# EAGLE library part M3826X(100PIN) (library renesas_mcu)
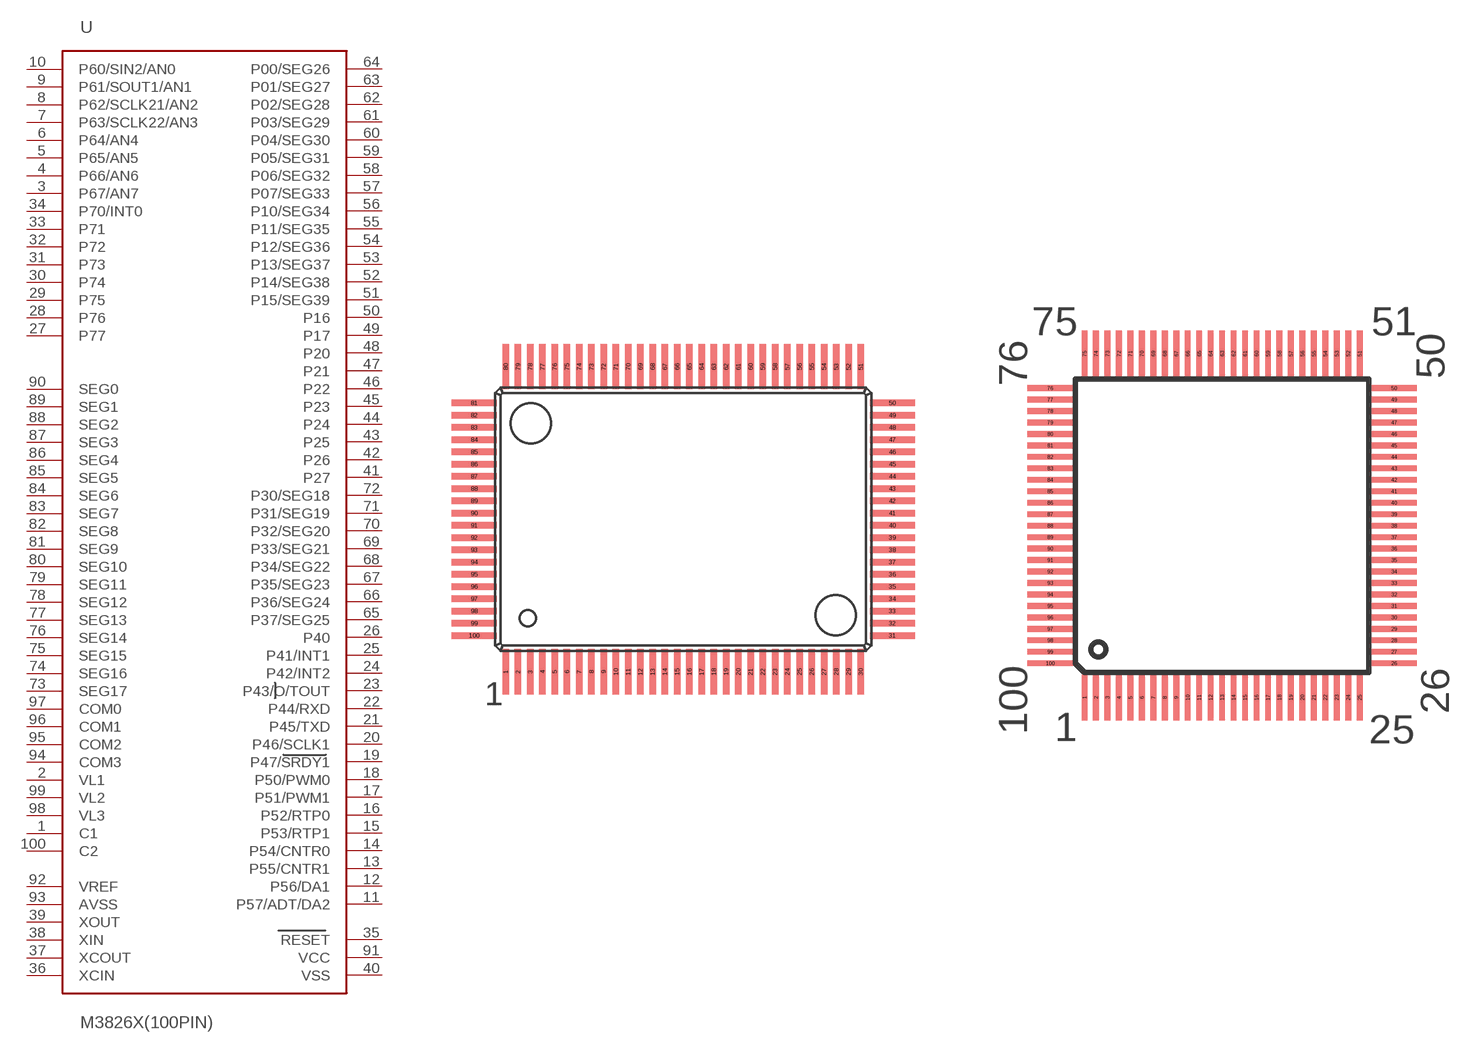
[diagram p73: symbol with the pads of 100P6S-A; footprints 100P6S-A, 100P6Q-A]

Designator prefix -

## M3826X(100PIN)FP  [100P6S-A]
1  C1  in
2  VL1  in
3  P67/AN7
4  P66/AN6
5  P65/AN5
6  P64/AN4
7  P63/SCLK22/AN3
8  P62/SCLK21/AN2
9  P61/SOUT1/AN1
10  P60/SIN2/AN0
11  P57/ADT/DA2
12  P56/DA1
13  P55/CNTR1
14  P54/CNTR0
15  P53/RTP1
16  P52/RTP0
17  P51/PWM1
18  P50/PWM0
19  P47/SRDY1
20  P46/SCLK1
21  P45/TXD
22  P44/RXD
23  P43/O/TOUT
24  P42/INT2
25  P41/INT1
26  P40
27  P77
28  P76
29  P75
30  P74
31  P73
32  P72
33  P71
34  P70/INT0
35  RESET  in
36  XCIN  in
37  XCOUT  out
38  XIN  in
39  XOUT  out
40  VSS  pwr
41  P27
42  P26
43  P25
44  P24
45  P23
46  P22
47  P21
48  P20
49  P17
50  P16
51  P15/SEG39
52  P14/SEG38
53  P13/SEG37
54  P12/SEG36
55  P11/SEG35
56  P10/SEG34
57  P07/SEG33
58  P06/SEG32
59  P05/SEG31
60  P04/SEG30
61  P03/SEG29
62  P02/SEG28
63  P01/SEG27
64  P00/SEG26
65  P37/SEG25  out
66  P36/SEG24  out
67  P35/SEG23  out
68  P34/SEG22  out
69  P33/SEG21  out
70  P32/SEG20  out
71  P31/SEG19  out
72  P30/SEG18  out
73  SEG17  out
74  SEG16  out
75  SEG15  out
76  SEG14  out
77  SEG13  out
78  SEG12  out
79  SEG11  out
80  SEG10  out
81  SEG9  out
82  SEG8  out
83  SEG7  out
84  SEG6  out
85  SEG5  out
86  SEG4  out
87  SEG3  out
88  SEG2  out
89  SEG1  out
90  SEG0  out
91  VCC  pwr
92  VREF  in
93  AVSS  in
94  COM3  out
95  COM2  out
96  COM1  out
97  COM0  out
98  VL3  in
99  VL2  in
100  C2  in

## M3826X(100PIN)GP  [100P6Q-A]
1  P67/AN7
2  P66/AN6
3  P65/AN5
4  P64/AN4
5  P63/SCLK22/AN3
6  P62/SCLK21/AN2
7  P61/SOUT1/AN1
8  P60/SIN2/AN0
9  P57/ADT/DA2
10  P56/DA1
11  P55/CNTR1
12  P54/CNTR0
13  P53/RTP1
14  P52/RTP0
15  P51/PWM1
16  P50/PWM0
17  P47/SRDY1
18  P46/SCLK1
19  P45/TXD
20  P44/RXD
21  P43/O/TOUT
22  P42/INT2
23  P41/INT1
24  P40
25  P77
26  P76
27  P75
28  P74
29  P73
30  P72
31  P71
32  P70/INT0
33  RESET  in
34  XCIN  in
35  XCOUT  out
36  XIN  in
37  XOUT  out
38  VSS  pwr
39  P27
40  P26
41  P25
42  P24
43  P23
44  P22
45  P21
46  P20
47  P17
48  P16
49  P15/SEG39
50  P14/SEG38
51  P13/SEG37
52  P12/SEG36
53  P11/SEG35
54  P10/SEG34
55  P07/SEG33
56  P06/SEG32
57  P05/SEG31
58  P04/SEG30
59  P03/SEG29
60  P02/SEG28
61  P01/SEG27
62  P00/SEG26
63  P37/SEG25  out
64  P36/SEG24  out
65  P35/SEG23  out
66  P34/SEG22  out
67  P33/SEG21  out
68  P32/SEG20  out
69  P31/SEG19  out
70  P30/SEG18  out
71  SEG17  out
72  SEG16  out
73  SEG15  out
74  SEG14  out
75  SEG13  out
76  SEG12  out
77  SEG11  out
78  SEG10  out
79  SEG9  out
80  SEG8  out
81  SEG7  out
82  SEG6  out
83  SEG5  out
84  SEG4  out
85  SEG3  out
86  SEG2  out
87  SEG1  out
88  SEG0  out
89  VCC  pwr
90  VREF  in
91  AVSS  in
92  COM3  out
93  COM2  out
94  COM1  out
95  COM0  out
96  VL3  in
97  VL2  in
98  C2  in
99  C1  in
100  VL1  in

## Footprint 100P6S-A (pad centres in mm)
smd 0.35 x 2.4: 1 -9.425,-8.1; 2 -8.775,-8.1; 3 -8.125,-8.1; 4 -7.475,-8.1; 5 -6.825,-8.1; 6 -6.175,-8.1; 7 -5.525,-8.1; 8 -4.875,-8.1; 9 -4.225,-8.1; 10 -3.575,-8.1; 11 -2.925,-8.1; 12 -2.275,-8.1; 13 -1.625,-8.1; 14 -0.975,-8.1; 15 -0.325,-8.1; 16 0.325,-8.1; 17 0.975,-8.1; 18 1.625,-8.1; 19 2.275,-8.1; 20 2.925,-8.1; 21 3.575,-8.1; 22 4.225,-8.1; 23 4.875,-8.1; 24 5.525,-8.1; 25 6.175,-8.1; 26 6.825,-8.1; 27 7.475,-8.1; 28 8.125,-8.1; 29 8.775,-8.1; 30 9.425,-8.1; 51 9.425,8.1; 52 8.775,8.1; 53 8.125,8.1; 54 7.475,8.1; 55 6.825,8.1; 56 6.175,8.1; 57 5.525,8.1; 58 4.875,8.1; 59 4.225,8.1; 60 3.575,8.1; 61 2.925,8.1; 62 2.275,8.1; 63 1.625,8.1; 64 0.975,8.1; 65 0.325,8.1; 66 -0.325,8.1; 67 -0.975,8.1; 68 -1.625,8.1; 69 -2.275,8.1; 70 -2.925,8.1; 71 -3.575,8.1; 72 -4.225,8.1; 73 -4.875,8.1; 74 -5.525,8.1; 75 -6.175,8.1; 76 -6.825,8.1; 77 -7.475,8.1; 78 -8.125,8.1; 79 -8.775,8.1; 80 -9.425,8.1
smd 2.4 x 0.35: 31 11.1,-6.175; 32 11.1,-5.525; 33 11.1,-4.875; 34 11.1,-4.225; 35 11.1,-3.575; 36 11.1,-2.925; 37 11.1,-2.275; 38 11.1,-1.625; 39 11.1,-0.975; 40 11.1,-0.325; 41 11.1,0.325; 42 11.1,0.975; 43 11.1,1.625; 44 11.1,2.275; 45 11.1,2.925; 46 11.1,3.575; 47 11.1,4.225; 48 11.1,4.875; 49 11.1,5.525; 50 11.1,6.175; 81 -11.1,6.175; 82 -11.1,5.525; 83 -11.1,4.875; 84 -11.1,4.225; 85 -11.1,3.575; 86 -11.1,2.925; 87 -11.1,2.275; 88 -11.1,1.625; 89 -11.1,0.975; 90 -11.1,0.325; 91 -11.1,-0.325; 92 -11.1,-0.975; 93 -11.1,-1.625; 94 -11.1,-2.275; 95 -11.1,-2.925; 96 -11.1,-3.575; 97 -11.1,-4.225; 98 -11.1,-4.875; 99 -11.1,-5.525; 100 -11.1,-6.175

## Footprint 100P6Q-A (pad centres in mm)
smd 0.25 x 2: 1 -6,-7.5; 2 -5.5,-7.5; 3 -5,-7.5; 4 -4.5,-7.5; 5 -4,-7.5; 6 -3.5,-7.5; 7 -3,-7.5; 8 -2.5,-7.5; 9 -2,-7.5; 10 -1.5,-7.5; 11 -1,-7.5; 12 -0.5,-7.5; 13 0,-7.5; 14 0.5,-7.5; 15 1,-7.5; 16 1.5,-7.5; 17 2,-7.5; 18 2.5,-7.5; 19 3,-7.5; 20 3.5,-7.5; 21 4,-7.5; 22 4.5,-7.5; 23 5,-7.5; 24 5.5,-7.5; 25 6,-7.5; 51 6,7.5; 52 5.5,7.5; 53 5,7.5; 54 4.5,7.5; 55 4,7.5; 56 3.5,7.5; 57 3,7.5; 58 2.5,7.5; 59 2,7.5; 60 1.5,7.5; 61 1,7.5; 62 0.5,7.5; 63 0,7.5; 64 -0.5,7.5; 65 -1,7.5; 66 -1.5,7.5; 67 -2,7.5; 68 -2.5,7.5; 69 -3,7.5; 70 -3.5,7.5; 71 -4,7.5; 72 -4.5,7.5; 73 -5,7.5; 74 -5.5,7.5; 75 -6,7.5
smd 2 x 0.25: 26 7.5,-6; 27 7.5,-5.5; 28 7.5,-5; 29 7.5,-4.5; 30 7.5,-4; 31 7.5,-3.5; 32 7.5,-3; 33 7.5,-2.5; 34 7.5,-2; 35 7.5,-1.5; 36 7.5,-1; 37 7.5,-0.5; 38 7.5,0; 39 7.5,0.5; 40 7.5,1; 41 7.5,1.5; 42 7.5,2; 43 7.5,2.5; 44 7.5,3; 45 7.5,3.5; 46 7.5,4; 47 7.5,4.5; 48 7.5,5; 49 7.5,5.5; 50 7.5,6; 76 -7.5,6; 77 -7.5,5.5; 78 -7.5,5; 79 -7.5,4.5; 80 -7.5,4; 81 -7.5,3.5; 82 -7.5,3; 83 -7.5,2.5; 84 -7.5,2; 85 -7.5,1.5; 86 -7.5,1; 87 -7.5,0.5; 88 -7.5,0; 89 -7.5,-0.5; 90 -7.5,-1; 91 -7.5,-1.5; 92 -7.5,-2; 93 -7.5,-2.5; 94 -7.5,-3; 95 -7.5,-3.5; 96 -7.5,-4; 97 -7.5,-4.5; 98 -7.5,-5; 99 -7.5,-5.5; 100 -7.5,-6